# Altium schematic symbol library USB_type_C_16PF-026.SchLib: 1 symbol
Pins are listed as number, name and electrical type; pins without a type are passive.

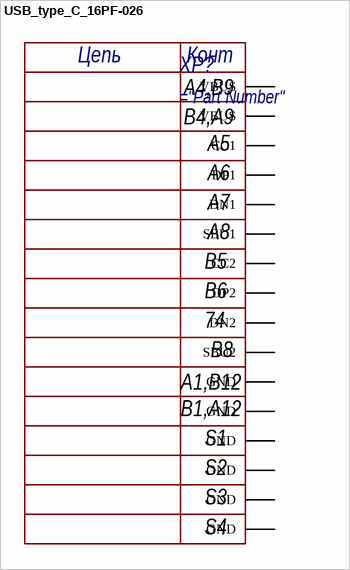
[diagram p0: symbol USB_type_C_16PF-026]

## USB_type_C_16PF-026
designator XP?
USB2.0 TYPE-C 16PF-026, Разъём USB TYPE-C - розетка в плату
pins: A1/B12 GND, A4/B9 VBUS, A5 CC1, A6 DP1, A7 DN1, A8 SBU1, B1/A12 GND, B4/A9 VBUS, B5 CC2, B6 DP2, B7 DN2, B8 SBU2, S1 GND, S2 GND, S3 GND, S4 GND
text: Цепь; Конт; A4,B9; B4,A9; 74; A1,B12; B1,A12